# Altium footprint library Resistor.PcbLib: 17 footprints (part 2 of 2)
Each footprint in its own frame and in the unit in brackets; x right, y up, seen from the top. Pads: shape width x height; smd on the part's side, far side on the other; paste and mask are expansions set on the pad; w line width, h text height; cw(c..) or ccw(c..) is an arc to the next point about the centre after c.
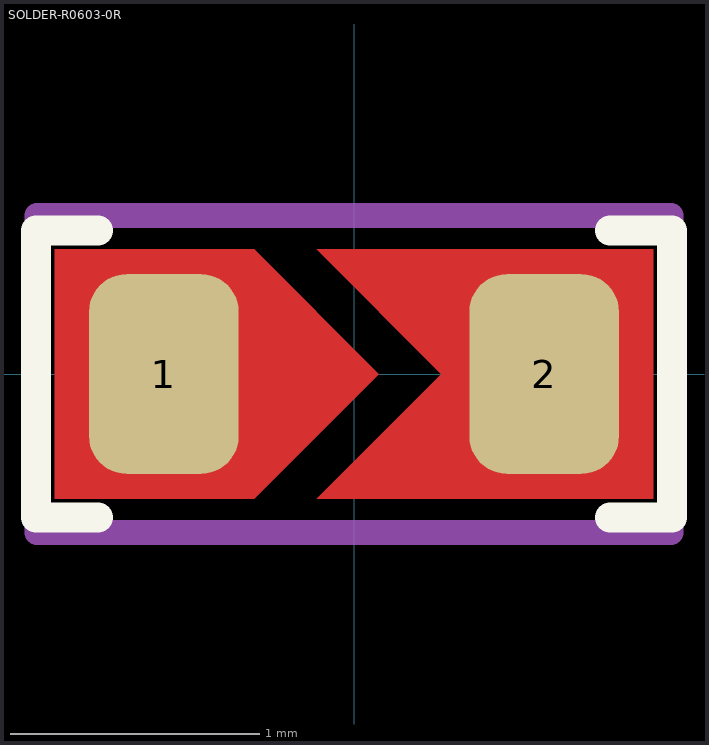
[diagram p1: the footprint, top view; thin cyan lines are the x and y axes]

## SOLDER-R0603-0R [mm]
height 0.5
pads (2):
  rrect50% 0.6x0.8 smd: 1(-0.762,0) 2(0.762,0)
Top Layer:
  region: -0.15,0.5 0.35,0 -0.15,-0.5 1.2,-0.5 1.2,0.5
  region: -1.2,-0.5 -1.2,0.5 -0.4,0.5 0.1,0 -0.4,-0.5
Top Overlay:
  lines w0.12: -1.025,-0.575 -1.275,-0.575 -1.275,0.175 -1.275,0.575 -1.025,0.575 ; 1.025,-0.575 1.275,-0.575 1.275,0.575 1.025,0.575
Top Solder:
  region: -0.95,0.55 0.95,0.55 0.95,-0.55 -0.95,-0.55
Mechanical 13:
  lines w0.1: -1.27,-0.635 -1.27,0.635 1.27,0.635 1.27,-0.635 -1.27,-0.635
  text ".Designator" at -1.27,-0.254 h1
Mechanical 15:
  lines w0.1: -1.27,-0.635 1.27,-0.635 1.27,0.635 -1.27,0.635 -1.27,-0.635
  text ".Comment" at -1.27,-0.254 h1
3D body: height 0.5, standoff 0, extent -0.905,-0.505 0.905,0.505